# EAGLE library part AM26LV31E (library texas)
HIGH-SPEED QUADRUPLE DIFFERENTIAL LINE DRIVER LOW-VOLTAGE WITH ±15-kV IEC ESD PROTECTION
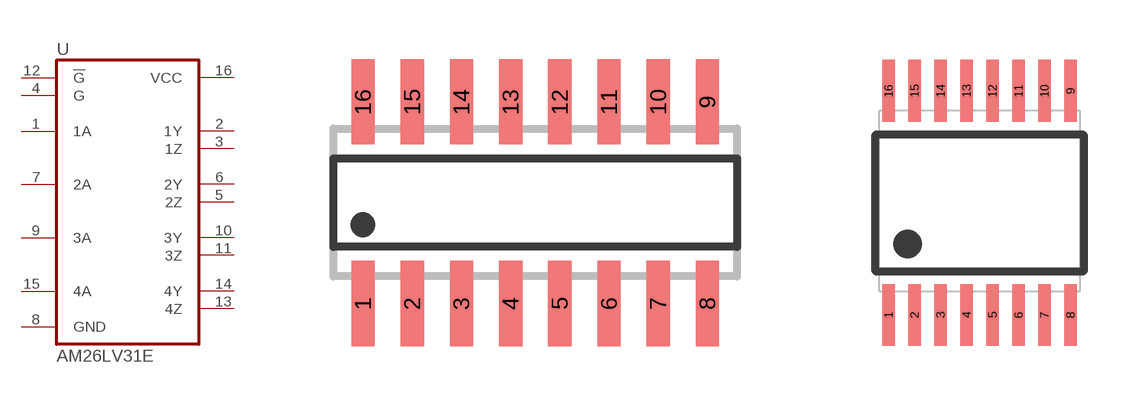
[diagram p88: symbol with the pads of SO16; footprints SO16, TSSOP16]

Designator prefix U

## AM26LV31ED  [SO16]
1  1A  in
2  1Y  out
3  1Z  out
4  G  in
5  2Z  out
6  2Y  out
7  2A  in
8  GND  pwr
9  3A  in
10  3Y  out
11  3Z  out
12  !G!  in
13  4Z  out
14  4Y  out
15  4A  in
16  VCC  pwr

## AM26LV31EPW  [TSSOP16]
Pads as for SO16

## Footprint SO16 (pad centres in mm)
SMALL OUTLINE INTEGRATED CIRCUIT body 3.9 mm/JEDEC MS-012AC
smd 0.6 x 2.2: 1 -4.445,-2.6; 2 -3.175,-2.6; 3 -1.905,-2.6; 4 -0.635,-2.6; 5 0.635,-2.6; 6 1.905,-2.6; 7 3.175,-2.6; 8 4.445,-2.6; 9 4.445,2.6; 10 3.175,2.6; 11 1.905,2.6; 12 0.635,2.6; 13 -0.635,2.6; 14 -1.905,2.6; 15 -3.175,2.6; 16 -4.445,2.6

## Footprint TSSOP16 (pad centres in mm)
Thin Shrink Small Outline Plastic 16
smd 0.31 x 1.55: 1 -2.275,-2.8; 2 -1.625,-2.8; 3 -0.975,-2.8; 4 -0.325,-2.8; 5 0.325,-2.8; 6 0.975,-2.8; 7 1.625,-2.8; 8 2.275,-2.8; 9 2.275,2.8; 10 1.625,2.8; 11 0.975,2.8; 12 0.325,2.8; 13 -0.325,2.8; 14 -0.975,2.8; 15 -1.625,2.8; 16 -2.275,2.8